# Altium integrated library Microchip PIC16 Part 1.IntLib: 1800 symbols (part 10 of 93)
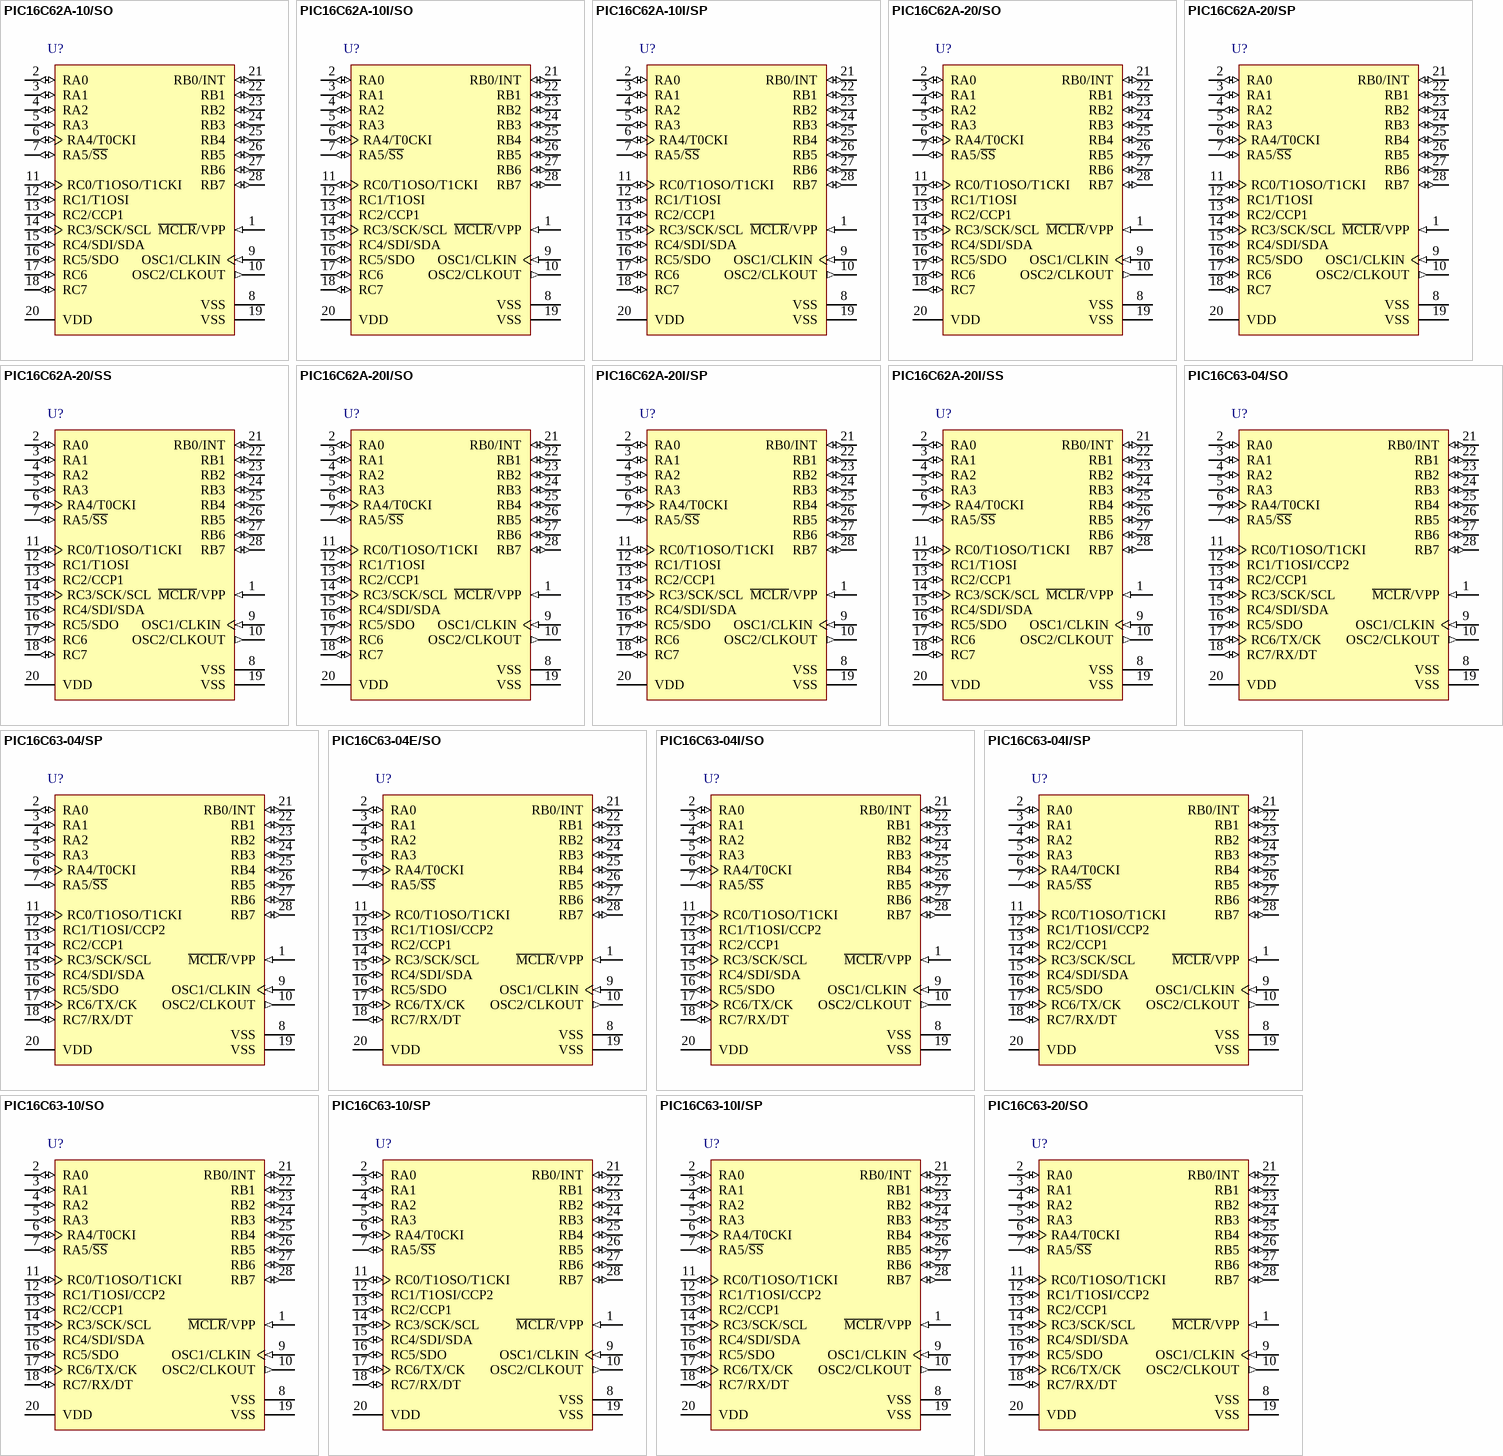
[diagram p109: symbols PIC16C62A-10/SO to PIC16C63-20/SO]

## PIC16C62A-20/SP
designator U?
8-Bit CMOS Microcontroller, 20 MHz, 22 I/O, 0 to 70 degC, 28-pin SPDIP (SP28), Tube; Manufacturer: Microchip; PartNumber: PIC16C62A-20/SP; Digital Communication: 1 -A/E/USART, 1 -SSP(SPI/I2C); I/O Pins: 22; Max. CPU Speed MHz: 20; Memory Type: OTP; Operation Voltage Range: 4V - 6V; Program Memory KBytes: 3.5; Program Memory KWords: 2; RAM: 128; Timers: 2 - 8-bit, 1 - 16-bit; DatasheetVersion: Rev. E; PackageVersion: C04-070B, 12/2012; PackageReference: SPDIP-SP28; PackageDescription: 28-Lead Plastic Dual In-Line, 34.86 x 6.79 mm Body, 2.54 mm Pitch; Supplier 1: Digi-Key; Supplier Part Number 1: PIC16C62A-20/SP-ND; Supplier 2: Mouser; Supplier Part Number 2: 579-PIC16C62A-20/SP; Packing: TUBE; RoHS: TRUE; Mounting Technology: Through Hole; ComponentLink1Description: Datasheet; ComponentLink1URL: http://ww1.microchip.com/downloads/en/DeviceDoc/30234E.pdf; ComponentLink2Description: Package Specification; ComponentLink2URL: http://www.microchip.com/stellent/groups/techpub_sg/documents/packagingspec/en012702.pdf; ComponentLink3Description: URL Link1; ComponentLink3URL: Product URL:http://www.microchip.com/datasheet/PIC16C62A
footprint MCHP-SPDIP-SP28 (DIP, 28-Leads, Body 34.86x6.79mm, Pitch 2.54mm)
pins: 1 ~{MCLR}/VPP (in), 2 RA0 (io), 3 RA1 (io), 4 RA2 (io), 5 RA3 (io), 6 RA4/T0CKI (io), 7 RA5/~{SS} (io), 8 VSS (power) "Ground reference for logic and I/O pins.", 9 OSC1/CLKIN (in), 10 OSC2/CLKOUT (out), 11 RC0/T1OSO/T1CKI (io), 12 RC1/T1OSI (io), 13 RC2/CCP1 (io), 14 RC3/SCK/SCL (io), 15 RC4/SDI/SDA (io), 16 RC5/SDO (io), 17 RC6 (io) "PORTC is a bi-directional I/O port.", 18 RC7 (io) "PORTC is a bi-directional I/O port.", 19 VSS (power) "Ground reference for logic and I/O pins.", 20 VDD (power) "Positive supply for logic and I/O pins.", 21 RB0/INT (io), 22 RB1 (io) "PORTB is a bi-directional I/O port. PORTB can be software programmed for internal weak pull-up on all inputs.", 23 RB2 (io) "PORTB is a bi-directional I/O port. PORTB can be software programmed for internal weak pull-up on all inputs.", 24 RB3 (io) "PORTB is a bi-directional I/O port. PORTB can be software programmed for internal weak pull-up on all inputs.", 25 RB4 (io) "PORTB is a bi-directional I/O port. PORTB can be software programmed for internal weak pull-up on all inputs.Interrupt on change pin.", 26 RB5 (io) "PORTB is a bi-directional I/O port. PORTB can be software programmed for internal weak pull-up on all inputs.Interrupt on change pin.", 27 RB6 (io) "PORTB is a bi-directional I/O port. PORTB can be software programmed for internal weak pull-up on all inputs.Interrupt on change pin. Serial programming clock.", 28 RB7 (io) "PORTB is a bi-directional I/O port. PORTB can be software programmed for internal weak pull-up on all inputs.Interrupt on change pin. Serial programming data."

## PIC16C62A-20/SS
designator U?
8-Bit CMOS Microcontroller, 20 MHz, 22 I/O, 0 to 70 degC, 28-pin SSOP (SS28), Tube; Manufacturer: Microchip; PartNumber: PIC16C62A-20/SS; Digital Communication: 1 -A/E/USART, 1 -SSP(SPI/I2C); I/O Pins: 22; Max. CPU Speed MHz: 20; Memory Type: OTP; Operation Voltage Range: 4V - 6V; Program Memory KBytes: 3.5; Program Memory KWords: 2; RAM: 128; Timers: 2 - 8-bit, 1 - 16-bit; DatasheetVersion: Rev. E; PackageVersion: C04-073B, 12/2012; PackageReference: SSOP-SS28; PackageDescription: 28-Lead Plastic Shrink Small Outline, 10.2 x 5.3 mm Body, 0.65 mm Pitch; Supplier 1: Digi-Key; Supplier Part Number 1: PIC16C62A-20/SS-ND; Supplier 2: Mouser; Supplier Part Number 2: 579-PIC16C62A-20/SS; Packing: TUBE; RoHS: TRUE; Mounting Technology: Surface Mount; ComponentLink1Description: Datasheet; ComponentLink1URL: http://ww1.microchip.com/downloads/en/DeviceDoc/30234E.pdf; ComponentLink2Description: Package Specification; ComponentLink2URL: http://www.microchip.com/stellent/groups/techpub_sg/documents/packagingspec/en012702.pdf; ComponentLink3Description: URL Link1; ComponentLink3URL: Product URL:http://www.microchip.com/datasheet/PIC16C62A
footprint MCHP-SSOP-SS28_N (SOP, 28-Leads, Body 10.2x5.3mm, Pitch 0.65mm, IPC Medium Density)
footprint MCHP-SSOP-SS28_L (SOP, 28-Leads, Body 10.2x5.3mm, Pitch 0.65mm, IPC High Density)
footprint MCHP-SSOP-SS28_M (SOP, 28-Leads, Body 10.2x5.3mm, Pitch 0.65mm, IPC Low Density)
pins: 1 ~{MCLR}/VPP (in), 2 RA0 (io), 3 RA1 (io), 4 RA2 (io), 5 RA3 (io), 6 RA4/T0CKI (io), 7 RA5/~{SS} (io), 8 VSS (power) "Ground reference for logic and I/O pins.", 9 OSC1/CLKIN (in), 10 OSC2/CLKOUT (out), 11 RC0/T1OSO/T1CKI (io), 12 RC1/T1OSI (io), 13 RC2/CCP1 (io), 14 RC3/SCK/SCL (io), 15 RC4/SDI/SDA (io), 16 RC5/SDO (io), 17 RC6 (io) "PORTC is a bi-directional I/O port.", 18 RC7 (io) "PORTC is a bi-directional I/O port.", 19 VSS (power) "Ground reference for logic and I/O pins.", 20 VDD (power) "Positive supply for logic and I/O pins.", 21 RB0/INT (io), 22 RB1 (io) "PORTB is a bi-directional I/O port. PORTB can be software programmed for internal weak pull-up on all inputs.", 23 RB2 (io) "PORTB is a bi-directional I/O port. PORTB can be software programmed for internal weak pull-up on all inputs.", 24 RB3 (io) "PORTB is a bi-directional I/O port. PORTB can be software programmed for internal weak pull-up on all inputs.", 25 RB4 (io) "PORTB is a bi-directional I/O port. PORTB can be software programmed for internal weak pull-up on all inputs.Interrupt on change pin.", 26 RB5 (io) "PORTB is a bi-directional I/O port. PORTB can be software programmed for internal weak pull-up on all inputs.Interrupt on change pin.", 27 RB6 (io) "PORTB is a bi-directional I/O port. PORTB can be software programmed for internal weak pull-up on all inputs.Interrupt on change pin. Serial programming clock.", 28 RB7 (io) "PORTB is a bi-directional I/O port. PORTB can be software programmed for internal weak pull-up on all inputs.Interrupt on change pin. Serial programming data."

## PIC16C62A-20I/SO
designator U?
8-Bit CMOS Microcontroller, 20 MHz, 22 I/O, -40 to 85 degC, 28-pin SOIC (SO28), Tube; Manufacturer: Microchip; PartNumber: PIC16C62A-20I/SO; Digital Communication: 1 -A/E/USART, 1 -SSP(SPI/I2C); I/O Pins: 22; Max. CPU Speed MHz: 20; Memory Type: OTP; Operation Voltage Range: 4V - 6V; Program Memory KBytes: 3.5; Program Memory KWords: 2; RAM: 128; Timers: 2 - 8-bit, 1 - 16-bit; DatasheetVersion: Rev. E; PackageVersion: C04-052C, 12/2012; PackageReference: SOIC-SO28; PackageDescription: 28-Lead Plastic Small Outline, 17.9 x 7.5 mm Body, 1.27 mm Pitch; Supplier 1: Digi-Key; Supplier Part Number 1: PIC16C62A-20I/SO-ND; Supplier 2: Mouser; Supplier Part Number 2: 579-PIC16C62A-20I/SO; Packing: TUBE; RoHS: TRUE; Mounting Technology: Surface Mount; ComponentLink1Description: Datasheet; ComponentLink1URL: http://ww1.microchip.com/downloads/en/DeviceDoc/30234E.pdf; ComponentLink2Description: Package Specification; ComponentLink2URL: http://www.microchip.com/stellent/groups/techpub_sg/documents/packagingspec/en012702.pdf; ComponentLink3Description: URL Link1; ComponentLink3URL: Product URL:http://www.microchip.com/datasheet/PIC16C62A
footprint MCHP-SOIC-SO28_N (SOIC, 28-Leads, Body 17.9x7.5mm, Pitch 1.27mm, IPC Medium Density)
footprint MCHP-SOIC-SO28_L (SOIC, 28-Leads, Body 17.9x7.5mm, Pitch 1.27mm, IPC High Density)
footprint MCHP-SOIC-SO28_M (SOIC, 28-Leads, Body 17.9x7.5mm, Pitch 1.27mm, IPC Low Density)
pins: 1 ~{MCLR}/VPP (in), 2 RA0 (io), 3 RA1 (io), 4 RA2 (io), 5 RA3 (io), 6 RA4/T0CKI (io), 7 RA5/~{SS} (io), 8 VSS (power) "Ground reference for logic and I/O pins.", 9 OSC1/CLKIN (in), 10 OSC2/CLKOUT (out), 11 RC0/T1OSO/T1CKI (io), 12 RC1/T1OSI (io), 13 RC2/CCP1 (io), 14 RC3/SCK/SCL (io), 15 RC4/SDI/SDA (io), 16 RC5/SDO (io), 17 RC6 (io) "PORTC is a bi-directional I/O port.", 18 RC7 (io) "PORTC is a bi-directional I/O port.", 19 VSS (power) "Ground reference for logic and I/O pins.", 20 VDD (power) "Positive supply for logic and I/O pins.", 21 RB0/INT (io), 22 RB1 (io) "PORTB is a bi-directional I/O port. PORTB can be software programmed for internal weak pull-up on all inputs.", 23 RB2 (io) "PORTB is a bi-directional I/O port. PORTB can be software programmed for internal weak pull-up on all inputs.", 24 RB3 (io) "PORTB is a bi-directional I/O port. PORTB can be software programmed for internal weak pull-up on all inputs.", 25 RB4 (io) "PORTB is a bi-directional I/O port. PORTB can be software programmed for internal weak pull-up on all inputs.Interrupt on change pin.", 26 RB5 (io) "PORTB is a bi-directional I/O port. PORTB can be software programmed for internal weak pull-up on all inputs.Interrupt on change pin.", 27 RB6 (io) "PORTB is a bi-directional I/O port. PORTB can be software programmed for internal weak pull-up on all inputs.Interrupt on change pin. Serial programming clock.", 28 RB7 (io) "PORTB is a bi-directional I/O port. PORTB can be software programmed for internal weak pull-up on all inputs.Interrupt on change pin. Serial programming data."

## PIC16C62A-20I/SP
designator U?
8-Bit CMOS Microcontroller, 20 MHz, 22 I/O, -40 to 85 degC, 28-pin SPDIP (SP28), Tube; Manufacturer: Microchip; PartNumber: PIC16C62A-20I/SP; Digital Communication: 1 -A/E/USART, 1 -SSP(SPI/I2C); I/O Pins: 22; Max. CPU Speed MHz: 20; Memory Type: OTP; Operation Voltage Range: 4V - 6V; Program Memory KBytes: 3.5; Program Memory KWords: 2; RAM: 128; Timers: 2 - 8-bit, 1 - 16-bit; DatasheetVersion: Rev. E; PackageVersion: C04-070B, 12/2012; PackageReference: SPDIP-SP28; PackageDescription: 28-Lead Plastic Dual In-Line, 34.86 x 6.79 mm Body, 2.54 mm Pitch; Supplier 1: Digi-Key; Supplier Part Number 1: PIC16C62A-20I/SP-ND; Supplier 2: Mouser; Supplier Part Number 2: 579-PIC16C62A-20I/SP; Packing: TUBE; RoHS: TRUE; Mounting Technology: Through Hole; ComponentLink1Description: Datasheet; ComponentLink1URL: http://ww1.microchip.com/downloads/en/DeviceDoc/30234E.pdf; ComponentLink2Description: Package Specification; ComponentLink2URL: http://www.microchip.com/stellent/groups/techpub_sg/documents/packagingspec/en012702.pdf; ComponentLink3Description: URL Link1; ComponentLink3URL: Product URL:http://www.microchip.com/datasheet/PIC16C62A
footprint MCHP-SPDIP-SP28 (DIP, 28-Leads, Body 34.86x6.79mm, Pitch 2.54mm)
pins: 1 ~{MCLR}/VPP (in), 2 RA0 (io), 3 RA1 (io), 4 RA2 (io), 5 RA3 (io), 6 RA4/T0CKI (io), 7 RA5/~{SS} (io), 8 VSS (power) "Ground reference for logic and I/O pins.", 9 OSC1/CLKIN (in), 10 OSC2/CLKOUT (out), 11 RC0/T1OSO/T1CKI (io), 12 RC1/T1OSI (io), 13 RC2/CCP1 (io), 14 RC3/SCK/SCL (io), 15 RC4/SDI/SDA (io), 16 RC5/SDO (io), 17 RC6 (io) "PORTC is a bi-directional I/O port.", 18 RC7 (io) "PORTC is a bi-directional I/O port.", 19 VSS (power) "Ground reference for logic and I/O pins.", 20 VDD (power) "Positive supply for logic and I/O pins.", 21 RB0/INT (io), 22 RB1 (io) "PORTB is a bi-directional I/O port. PORTB can be software programmed for internal weak pull-up on all inputs.", 23 RB2 (io) "PORTB is a bi-directional I/O port. PORTB can be software programmed for internal weak pull-up on all inputs.", 24 RB3 (io) "PORTB is a bi-directional I/O port. PORTB can be software programmed for internal weak pull-up on all inputs.", 25 RB4 (io) "PORTB is a bi-directional I/O port. PORTB can be software programmed for internal weak pull-up on all inputs.Interrupt on change pin.", 26 RB5 (io) "PORTB is a bi-directional I/O port. PORTB can be software programmed for internal weak pull-up on all inputs.Interrupt on change pin.", 27 RB6 (io) "PORTB is a bi-directional I/O port. PORTB can be software programmed for internal weak pull-up on all inputs.Interrupt on change pin. Serial programming clock.", 28 RB7 (io) "PORTB is a bi-directional I/O port. PORTB can be software programmed for internal weak pull-up on all inputs.Interrupt on change pin. Serial programming data."

## PIC16C62A-20I/SS
designator U?
8-Bit CMOS Microcontroller, 20 MHz, 22 I/O, -40 to 85 degC, 28-pin SSOP (SS28), Tube; Manufacturer: Microchip; PartNumber: PIC16C62A-20I/SS; Digital Communication: 1 -A/E/USART, 1 -SSP(SPI/I2C); I/O Pins: 22; Max. CPU Speed MHz: 20; Memory Type: OTP; Operation Voltage Range: 4V - 6V; Program Memory KBytes: 3.5; Program Memory KWords: 2; RAM: 128; Timers: 2 - 8-bit, 1 - 16-bit; DatasheetVersion: Rev. E; PackageVersion: C04-073B, 12/2012; PackageReference: SSOP-SS28; PackageDescription: 28-Lead Plastic Shrink Small Outline, 10.2 x 5.3 mm Body, 0.65 mm Pitch; Supplier 1: Digi-Key; Supplier Part Number 1: PIC16C62A-20I/SS-ND; Supplier 2: Mouser; Supplier Part Number 2: 579-PIC16C62A-20I/SS; Packing: TUBE; RoHS: TRUE; Mounting Technology: Surface Mount; ComponentLink1Description: Datasheet; ComponentLink1URL: http://ww1.microchip.com/downloads/en/DeviceDoc/30234E.pdf; ComponentLink2Description: Package Specification; ComponentLink2URL: http://www.microchip.com/stellent/groups/techpub_sg/documents/packagingspec/en012702.pdf; ComponentLink3Description: URL Link1; ComponentLink3URL: Product URL:http://www.microchip.com/datasheet/PIC16C62A
footprint MCHP-SSOP-SS28_N (SOP, 28-Leads, Body 10.2x5.3mm, Pitch 0.65mm, IPC Medium Density)
footprint MCHP-SSOP-SS28_L (SOP, 28-Leads, Body 10.2x5.3mm, Pitch 0.65mm, IPC High Density)
footprint MCHP-SSOP-SS28_M (SOP, 28-Leads, Body 10.2x5.3mm, Pitch 0.65mm, IPC Low Density)
pins: 1 ~{MCLR}/VPP (in), 2 RA0 (io), 3 RA1 (io), 4 RA2 (io), 5 RA3 (io), 6 RA4/T0CKI (io), 7 RA5/~{SS} (io), 8 VSS (power) "Ground reference for logic and I/O pins.", 9 OSC1/CLKIN (in), 10 OSC2/CLKOUT (out), 11 RC0/T1OSO/T1CKI (io), 12 RC1/T1OSI (io), 13 RC2/CCP1 (io), 14 RC3/SCK/SCL (io), 15 RC4/SDI/SDA (io), 16 RC5/SDO (io), 17 RC6 (io) "PORTC is a bi-directional I/O port.", 18 RC7 (io) "PORTC is a bi-directional I/O port.", 19 VSS (power) "Ground reference for logic and I/O pins.", 20 VDD (power) "Positive supply for logic and I/O pins.", 21 RB0/INT (io), 22 RB1 (io) "PORTB is a bi-directional I/O port. PORTB can be software programmed for internal weak pull-up on all inputs.", 23 RB2 (io) "PORTB is a bi-directional I/O port. PORTB can be software programmed for internal weak pull-up on all inputs.", 24 RB3 (io) "PORTB is a bi-directional I/O port. PORTB can be software programmed for internal weak pull-up on all inputs.", 25 RB4 (io) "PORTB is a bi-directional I/O port. PORTB can be software programmed for internal weak pull-up on all inputs.Interrupt on change pin.", 26 RB5 (io) "PORTB is a bi-directional I/O port. PORTB can be software programmed for internal weak pull-up on all inputs.Interrupt on change pin.", 27 RB6 (io) "PORTB is a bi-directional I/O port. PORTB can be software programmed for internal weak pull-up on all inputs.Interrupt on change pin. Serial programming clock.", 28 RB7 (io) "PORTB is a bi-directional I/O port. PORTB can be software programmed for internal weak pull-up on all inputs.Interrupt on change pin. Serial programming data."

## PIC16C63-04/SO
designator U?
8-Bit CMOS Microcontroller, 4 MHz, 22 I/O, 0 to 70 degC, 28-pin SOIC (SO28), Tube; Manufacturer: Microchip; PartNumber: PIC16C63-04/SO; # of A/D Channels: 5; Digital Communication: 0 -UART, 1 -A/E/USART, 0 -SPI, 0 -I2C, 0 -MSSP(SPI/I2C), 1 -SSP(SPI/I2C); I/O Pins: 22; Max. CPU Speed MHz: 4; Memory Type: OTP; Operation Voltage Range: 2.5V - 6V; Program Memory KBytes: 7; RAM: 192; Timers: 2 - 8-bit, 1 - 16-bit; DatasheetVersion: Rev. E; PackageVersion: C04-052C, 12/2012; PackageReference: SOIC-SO28; PackageDescription: 28-Lead Plastic Small Outline, 17.9 x 7.5 mm Body, 1.27 mm Pitch; Supplier 1: Digi-Key; Supplier Part Number 1: PIC16C63-04/SO-ND; Supplier 2: Farnell; Supplier Part Number 2: 9759581; Supplier 3: Mouser; Supplier Part Number 3: 579-PIC16C63-04/SO; Packing: TUBE; Program Memory KWords: 4; RoHS: TRUE; Mounting Technology: Surface Mount; ComponentLink1Description: Datasheet; ComponentLink1URL: http://ww1.microchip.com/downloads/en/DeviceDoc/30234E.pdf; ComponentLink2Description: Package Specification; ComponentLink2URL: http://www.microchip.com/stellent/groups/techpub_sg/documents/packagingspec/en012702.pdf; ComponentLink3Description: URL Link1; ComponentLink3URL: Product URL:http://www.microchip.com/datasheet/PIC16C63
footprint MCHP-SOIC-SO28_N (SOIC, 28-Leads, Body 17.9x7.5mm, Pitch 1.27mm, IPC Medium Density)
footprint MCHP-SOIC-SO28_L (SOIC, 28-Leads, Body 17.9x7.5mm, Pitch 1.27mm, IPC High Density)
footprint MCHP-SOIC-SO28_M (SOIC, 28-Leads, Body 17.9x7.5mm, Pitch 1.27mm, IPC Low Density)
pins: 1 ~{MCLR}/VPP (in), 2 RA0 (io) "PORTA is a bi-directional I/O port.", 3 RA1 (io) "PORTA is a bi-directional I/O port.", 4 RA2 (io) "PORTA is a bi-directional I/O port.", 5 RA3 (io) "PORTA is a bi-directional I/O port.", 6 RA4/T0CKI (io), 7 RA5/~{SS} (io), 8 VSS (power) "Ground reference for logic and I/O pins.", 9 OSC1/CLKIN (in), 10 OSC2/CLKOUT (out), 11 RC0/T1OSO/T1CKI (io), 12 RC1/T1OSI/CCP2 (io), 13 RC2/CCP1 (io), 14 RC3/SCK/SCL (io), 15 RC4/SDI/SDA (io), 16 RC5/SDO (io), 17 RC6/TX/CK (io), 18 RC7/RX/DT (io), 19 VSS (power) "Ground reference for logic and I/O pins.", 20 VDD (power) "Positive supply for logic and I/O pins.", 21 RB0/INT (io), 22 RB1 (io) "PORTB is a bi-directional I/O port. PORTB can be software programmed for internal weak pull-up on all inputs.", 23 RB2 (io) "PORTB is a bi-directional I/O port. PORTB can be software programmed for internal weak pull-up on all inputs.", 24 RB3 (io) "PORTB is a bi-directional I/O port. PORTB can be software programmed for internal weak pull-up on all inputs.", 25 RB4 (io) "PORTB is a bi-directional I/O port. PORTB can be software programmed for internal weak pull-up on all inputs. Interrupt on change pin.", 26 RB5 (io) "PORTB is a bi-directional I/O port. PORTB can be software programmed for internal weak pull-up on all inputs. Interrupt on change pin.", 27 RB6 (io) "PORTB is a bi-directional I/O port. PORTB can be software programmed for internal weak pull-up on all inputs. Interrupt on change pin. Serial programming clock.", 28 RB7 (io) "PORTB is a bi-directional I/O port. PORTB can be software programmed for internal weak pull-up on all inputs. Interrupt on change pin. Serial programming data."

## PIC16C63-04/SP
designator U?
8-Bit CMOS Microcontroller, 4 MHz, 22 I/O, 0 to 70 degC, 28-pin SPDIP (SP28), Tube; Manufacturer: Microchip; PartNumber: PIC16C63-04/SP; # of A/D Channels: 5; Digital Communication: 0 -UART, 1 -A/E/USART, 0 -SPI, 0 -I2C, 0 -MSSP(SPI/I2C), 1 -SSP(SPI/I2C); I/O Pins: 22; Max. CPU Speed MHz: 4; Memory Type: OTP; Operation Voltage Range: 2.5V - 6V; Program Memory KBytes: 7; RAM: 192; Timers: 2 - 8-bit, 1 - 16-bit; DatasheetVersion: Rev. E; PackageVersion: C04-070B, 12/2012; PackageReference: SPDIP-SP28; PackageDescription: 28-Lead Plastic Dual In-Line, 34.86 x 6.79 mm Body, 2.54 mm Pitch; Supplier 1: Digi-Key; Supplier Part Number 1: PIC16C63-04/SP-ND; Supplier 2: Farnell; Supplier Part Number 2: 9759590; Supplier 3: Newark; Supplier Part Number 3: 97K7238; Supplier 4: Mouser; Supplier Part Number 4: 579-PIC16C63-04/SP; Packing: TUBE; Program Memory KWords: 4; RoHS: TRUE; Mounting Technology: Through Hole; ComponentLink1Description: Datasheet; ComponentLink1URL: http://ww1.microchip.com/downloads/en/DeviceDoc/30234E.pdf; ComponentLink2Description: Package Specification; ComponentLink2URL: http://www.microchip.com/stellent/groups/techpub_sg/documents/packagingspec/en012702.pdf; ComponentLink3Description: URL Link1; ComponentLink3URL: Product URL:http://www.microchip.com/datasheet/PIC16C63
footprint MCHP-SPDIP-SP28 (DIP, 28-Leads, Body 34.86x6.79mm, Pitch 2.54mm)
pins: 1 ~{MCLR}/VPP (in), 2 RA0 (io) "PORTA is a bi-directional I/O port.", 3 RA1 (io) "PORTA is a bi-directional I/O port.", 4 RA2 (io) "PORTA is a bi-directional I/O port.", 5 RA3 (io) "PORTA is a bi-directional I/O port.", 6 RA4/T0CKI (io), 7 RA5/~{SS} (io), 8 VSS (power) "Ground reference for logic and I/O pins.", 9 OSC1/CLKIN (in), 10 OSC2/CLKOUT (out), 11 RC0/T1OSO/T1CKI (io), 12 RC1/T1OSI/CCP2 (io), 13 RC2/CCP1 (io), 14 RC3/SCK/SCL (io), 15 RC4/SDI/SDA (io), 16 RC5/SDO (io), 17 RC6/TX/CK (io), 18 RC7/RX/DT (io), 19 VSS (power) "Ground reference for logic and I/O pins.", 20 VDD (power) "Positive supply for logic and I/O pins.", 21 RB0/INT (io), 22 RB1 (io) "PORTB is a bi-directional I/O port. PORTB can be software programmed for internal weak pull-up on all inputs.", 23 RB2 (io) "PORTB is a bi-directional I/O port. PORTB can be software programmed for internal weak pull-up on all inputs.", 24 RB3 (io) "PORTB is a bi-directional I/O port. PORTB can be software programmed for internal weak pull-up on all inputs.", 25 RB4 (io) "PORTB is a bi-directional I/O port. PORTB can be software programmed for internal weak pull-up on all inputs. Interrupt on change pin.", 26 RB5 (io) "PORTB is a bi-directional I/O port. PORTB can be software programmed for internal weak pull-up on all inputs. Interrupt on change pin.", 27 RB6 (io) "PORTB is a bi-directional I/O port. PORTB can be software programmed for internal weak pull-up on all inputs. Interrupt on change pin. Serial programming clock.", 28 RB7 (io) "PORTB is a bi-directional I/O port. PORTB can be software programmed for internal weak pull-up on all inputs. Interrupt on change pin. Serial programming data."

## PIC16C63-04E/SO
designator U?
8-Bit CMOS Microcontroller, 4 MHz, 22 I/O, -40 to 125 degC, 28-pin SOIC (SO28), Tube; Manufacturer: Microchip; PartNumber: PIC16C63-04E/SO; # of A/D Channels: 5; Digital Communication: 0 -UART, 1 -A/E/USART, 0 -SPI, 0 -I2C, 0 -MSSP(SPI/I2C), 1 -SSP(SPI/I2C); I/O Pins: 22; Max. CPU Speed MHz: 4; Memory Type: OTP; Operation Voltage Range: 2.5V - 6V; Program Memory KBytes: 7; RAM: 192; Timers: 2 - 8-bit, 1 - 16-bit; DatasheetVersion: Rev. E; PackageVersion: C04-052C, 12/2012; PackageReference: SOIC-SO28; PackageDescription: 28-Lead Plastic Small Outline, 17.9 x 7.5 mm Body, 1.27 mm Pitch; Supplier 1: Digi-Key; Supplier Part Number 1: PIC16C63-04E/SO-ND; Supplier 2: Mouser; Supplier Part Number 2: 579-PIC16C63-04E/SO; Packing: TUBE; Program Memory KWords: 4; RoHS: TRUE; Mounting Technology: Surface Mount; ComponentLink1Description: Datasheet; ComponentLink1URL: http://ww1.microchip.com/downloads/en/DeviceDoc/30234E.pdf; ComponentLink2Description: Package Specification; ComponentLink2URL: http://www.microchip.com/stellent/groups/techpub_sg/documents/packagingspec/en012702.pdf; ComponentLink3Description: URL Link1; ComponentLink3URL: Product URL:http://www.microchip.com/datasheet/PIC16C63
footprint MCHP-SOIC-SO28_N (SOIC, 28-Leads, Body 17.9x7.5mm, Pitch 1.27mm, IPC Medium Density)
footprint MCHP-SOIC-SO28_L (SOIC, 28-Leads, Body 17.9x7.5mm, Pitch 1.27mm, IPC High Density)
footprint MCHP-SOIC-SO28_M (SOIC, 28-Leads, Body 17.9x7.5mm, Pitch 1.27mm, IPC Low Density)
pins: 1 ~{MCLR}/VPP (in), 2 RA0 (io) "PORTA is a bi-directional I/O port.", 3 RA1 (io) "PORTA is a bi-directional I/O port.", 4 RA2 (io) "PORTA is a bi-directional I/O port.", 5 RA3 (io) "PORTA is a bi-directional I/O port.", 6 RA4/T0CKI (io), 7 RA5/~{SS} (io), 8 VSS (power) "Ground reference for logic and I/O pins.", 9 OSC1/CLKIN (in), 10 OSC2/CLKOUT (out), 11 RC0/T1OSO/T1CKI (io), 12 RC1/T1OSI/CCP2 (io), 13 RC2/CCP1 (io), 14 RC3/SCK/SCL (io), 15 RC4/SDI/SDA (io), 16 RC5/SDO (io), 17 RC6/TX/CK (io), 18 RC7/RX/DT (io), 19 VSS (power) "Ground reference for logic and I/O pins.", 20 VDD (power) "Positive supply for logic and I/O pins.", 21 RB0/INT (io), 22 RB1 (io) "PORTB is a bi-directional I/O port. PORTB can be software programmed for internal weak pull-up on all inputs.", 23 RB2 (io) "PORTB is a bi-directional I/O port. PORTB can be software programmed for internal weak pull-up on all inputs.", 24 RB3 (io) "PORTB is a bi-directional I/O port. PORTB can be software programmed for internal weak pull-up on all inputs.", 25 RB4 (io) "PORTB is a bi-directional I/O port. PORTB can be software programmed for internal weak pull-up on all inputs. Interrupt on change pin.", 26 RB5 (io) "PORTB is a bi-directional I/O port. PORTB can be software programmed for internal weak pull-up on all inputs. Interrupt on change pin.", 27 RB6 (io) "PORTB is a bi-directional I/O port. PORTB can be software programmed for internal weak pull-up on all inputs. Interrupt on change pin. Serial programming clock.", 28 RB7 (io) "PORTB is a bi-directional I/O port. PORTB can be software programmed for internal weak pull-up on all inputs. Interrupt on change pin. Serial programming data."

## PIC16C63-04I/SO
designator U?
8-Bit CMOS Microcontroller, 4 MHz, 22 I/O, -40 to 85 degC, 28-pin SOIC (SO28), Tube; Manufacturer: Microchip; PartNumber: PIC16C63-04I/SO; # of A/D Channels: 5; Digital Communication: 0 -UART, 1 -A/E/USART, 0 -SPI, 0 -I2C, 0 -MSSP(SPI/I2C), 1 -SSP(SPI/I2C); I/O Pins: 22; Max. CPU Speed MHz: 4; Memory Type: OTP; Operation Voltage Range: 2.5V - 6V; Program Memory KBytes: 7; RAM: 192; Timers: 2 - 8-bit, 1 - 16-bit; DatasheetVersion: Rev. E; PackageVersion: C04-052C, 12/2012; PackageReference: SOIC-SO28; PackageDescription: 28-Lead Plastic Small Outline, 17.9 x 7.5 mm Body, 1.27 mm Pitch; Supplier 1: Digi-Key; Supplier Part Number 1: PIC16C63-04I/SO-ND; Supplier 2: Mouser; Supplier Part Number 2: 579-PIC16C63-04I/SO; Packing: TUBE; Program Memory KWords: 4; RoHS: TRUE; Mounting Technology: Surface Mount; ComponentLink1Description: Datasheet; ComponentLink1URL: http://ww1.microchip.com/downloads/en/DeviceDoc/30234E.pdf; ComponentLink2Description: Package Specification; ComponentLink2URL: http://www.microchip.com/stellent/groups/techpub_sg/documents/packagingspec/en012702.pdf; ComponentLink3Description: URL Link1; ComponentLink3URL: Product URL:http://www.microchip.com/datasheet/PIC16C63
footprint MCHP-SOIC-SO28_N (SOIC, 28-Leads, Body 17.9x7.5mm, Pitch 1.27mm, IPC Medium Density)
footprint MCHP-SOIC-SO28_L (SOIC, 28-Leads, Body 17.9x7.5mm, Pitch 1.27mm, IPC High Density)
footprint MCHP-SOIC-SO28_M (SOIC, 28-Leads, Body 17.9x7.5mm, Pitch 1.27mm, IPC Low Density)
pins: 1 ~{MCLR}/VPP (in), 2 RA0 (io) "PORTA is a bi-directional I/O port.", 3 RA1 (io) "PORTA is a bi-directional I/O port.", 4 RA2 (io) "PORTA is a bi-directional I/O port.", 5 RA3 (io) "PORTA is a bi-directional I/O port.", 6 RA4/T0CKI (io), 7 RA5/~{SS} (io), 8 VSS (power) "Ground reference for logic and I/O pins.", 9 OSC1/CLKIN (in), 10 OSC2/CLKOUT (out), 11 RC0/T1OSO/T1CKI (io), 12 RC1/T1OSI/CCP2 (io), 13 RC2/CCP1 (io), 14 RC3/SCK/SCL (io), 15 RC4/SDI/SDA (io), 16 RC5/SDO (io), 17 RC6/TX/CK (io), 18 RC7/RX/DT (io), 19 VSS (power) "Ground reference for logic and I/O pins.", 20 VDD (power) "Positive supply for logic and I/O pins.", 21 RB0/INT (io), 22 RB1 (io) "PORTB is a bi-directional I/O port. PORTB can be software programmed for internal weak pull-up on all inputs.", 23 RB2 (io) "PORTB is a bi-directional I/O port. PORTB can be software programmed for internal weak pull-up on all inputs.", 24 RB3 (io) "PORTB is a bi-directional I/O port. PORTB can be software programmed for internal weak pull-up on all inputs.", 25 RB4 (io) "PORTB is a bi-directional I/O port. PORTB can be software programmed for internal weak pull-up on all inputs. Interrupt on change pin.", 26 RB5 (io) "PORTB is a bi-directional I/O port. PORTB can be software programmed for internal weak pull-up on all inputs. Interrupt on change pin.", 27 RB6 (io) "PORTB is a bi-directional I/O port. PORTB can be software programmed for internal weak pull-up on all inputs. Interrupt on change pin. Serial programming clock.", 28 RB7 (io) "PORTB is a bi-directional I/O port. PORTB can be software programmed for internal weak pull-up on all inputs. Interrupt on change pin. Serial programming data."

## PIC16C63-04I/SP
designator U?
8-Bit CMOS Microcontroller, 4 MHz, 22 I/O, -40 to 85 degC, 28-pin SPDIP (SP28), Tube; Manufacturer: Microchip; PartNumber: PIC16C63-04I/SP; # of A/D Channels: 5; Digital Communication: 0 -UART, 1 -A/E/USART, 0 -SPI, 0 -I2C, 0 -MSSP(SPI/I2C), 1 -SSP(SPI/I2C); I/O Pins: 22; Max. CPU Speed MHz: 4; Memory Type: OTP; Operation Voltage Range: 2.5V - 6V; Program Memory KBytes: 7; RAM: 192; Timers: 2 - 8-bit, 1 - 16-bit; DatasheetVersion: Rev. E; PackageVersion: C04-070B, 12/2012; PackageReference: SPDIP-SP28; PackageDescription: 28-Lead Plastic Dual In-Line, 34.86 x 6.79 mm Body, 2.54 mm Pitch; Supplier 1: Digi-Key; Supplier Part Number 1: PIC16C63-04I/SP-ND; Supplier 2: Mouser; Supplier Part Number 2: 579-PIC16C63-04I/SP; Packing: TUBE; Program Memory KWords: 4; RoHS: TRUE; Mounting Technology: Through Hole; ComponentLink1Description: Datasheet; ComponentLink1URL: http://ww1.microchip.com/downloads/en/DeviceDoc/30234E.pdf; ComponentLink2Description: Package Specification; ComponentLink2URL: http://www.microchip.com/stellent/groups/techpub_sg/documents/packagingspec/en012702.pdf; ComponentLink3Description: URL Link1; ComponentLink3URL: Product URL:http://www.microchip.com/datasheet/PIC16C63
footprint MCHP-SPDIP-SP28 (DIP, 28-Leads, Body 34.86x6.79mm, Pitch 2.54mm)
pins: 1 ~{MCLR}/VPP (in), 2 RA0 (io) "PORTA is a bi-directional I/O port.", 3 RA1 (io) "PORTA is a bi-directional I/O port.", 4 RA2 (io) "PORTA is a bi-directional I/O port.", 5 RA3 (io) "PORTA is a bi-directional I/O port.", 6 RA4/T0CKI (io), 7 RA5/~{SS} (io), 8 VSS (power) "Ground reference for logic and I/O pins.", 9 OSC1/CLKIN (in), 10 OSC2/CLKOUT (out), 11 RC0/T1OSO/T1CKI (io), 12 RC1/T1OSI/CCP2 (io), 13 RC2/CCP1 (io), 14 RC3/SCK/SCL (io), 15 RC4/SDI/SDA (io), 16 RC5/SDO (io), 17 RC6/TX/CK (io), 18 RC7/RX/DT (io), 19 VSS (power) "Ground reference for logic and I/O pins.", 20 VDD (power) "Positive supply for logic and I/O pins.", 21 RB0/INT (io), 22 RB1 (io) "PORTB is a bi-directional I/O port. PORTB can be software programmed for internal weak pull-up on all inputs.", 23 RB2 (io) "PORTB is a bi-directional I/O port. PORTB can be software programmed for internal weak pull-up on all inputs.", 24 RB3 (io) "PORTB is a bi-directional I/O port. PORTB can be software programmed for internal weak pull-up on all inputs.", 25 RB4 (io) "PORTB is a bi-directional I/O port. PORTB can be software programmed for internal weak pull-up on all inputs. Interrupt on change pin.", 26 RB5 (io) "PORTB is a bi-directional I/O port. PORTB can be software programmed for internal weak pull-up on all inputs. Interrupt on change pin.", 27 RB6 (io) "PORTB is a bi-directional I/O port. PORTB can be software programmed for internal weak pull-up on all inputs. Interrupt on change pin. Serial programming clock.", 28 RB7 (io) "PORTB is a bi-directional I/O port. PORTB can be software programmed for internal weak pull-up on all inputs. Interrupt on change pin. Serial programming data."

## PIC16C63-10/SO
designator U?
8-Bit CMOS Microcontroller, 10 MHz, 22 I/O, 0 to 70 degC, 28-pin SOIC (SO28), Tube; Manufacturer: Microchip; PartNumber: PIC16C63-10/SO; # of A/D Channels: 5; Digital Communication: 0 -UART, 1 -A/E/USART, 0 -SPI, 0 -I2C, 0 -MSSP(SPI/I2C), 1 -SSP(SPI/I2C); I/O Pins: 22; Max. CPU Speed MHz: 10; Memory Type: OTP; Operation Voltage Range: 2.5V - 6V; Program Memory KBytes: 7; Program Memory KWords: 4; RAM: 192; Timers: 2 - 8-bit, 1 - 16-bit; DatasheetVersion: Rev. E; PackageVersion: C04-052C, 12/2012; PackageReference: SOIC-SO28; PackageDescription: 28-Lead Plastic Small Outline, 17.9 x 7.5 mm Body, 1.27 mm Pitch; Supplier 1: Digi-Key; Supplier Part Number 1: PIC16C63-10/SO-ND; Supplier 2: Mouser; Supplier Part Number 2: 579-PIC16C63-10/SO; Packing: TUBE; RoHS: TRUE; Mounting Technology: Surface Mount; ComponentLink1Description: Datasheet; ComponentLink1URL: http://ww1.microchip.com/downloads/en/DeviceDoc/30234E.pdf; ComponentLink2Description: Package Specification; ComponentLink2URL: http://www.microchip.com/stellent/groups/techpub_sg/documents/packagingspec/en012702.pdf; ComponentLink3Description: URL Link1; ComponentLink3URL: Product URL:http://www.microchip.com/datasheet/PIC16C63
footprint MCHP-SOIC-SO28_N (SOIC, 28-Leads, Body 17.9x7.5mm, Pitch 1.27mm, IPC Medium Density)
footprint MCHP-SOIC-SO28_L (SOIC, 28-Leads, Body 17.9x7.5mm, Pitch 1.27mm, IPC High Density)
footprint MCHP-SOIC-SO28_M (SOIC, 28-Leads, Body 17.9x7.5mm, Pitch 1.27mm, IPC Low Density)
pins: 1 ~{MCLR}/VPP (in), 2 RA0 (io) "PORTA is a bi-directional I/O port.", 3 RA1 (io) "PORTA is a bi-directional I/O port.", 4 RA2 (io) "PORTA is a bi-directional I/O port.", 5 RA3 (io) "PORTA is a bi-directional I/O port.", 6 RA4/T0CKI (io), 7 RA5/~{SS} (io), 8 VSS (power) "Ground reference for logic and I/O pins.", 9 OSC1/CLKIN (in), 10 OSC2/CLKOUT (out), 11 RC0/T1OSO/T1CKI (io), 12 RC1/T1OSI/CCP2 (io), 13 RC2/CCP1 (io), 14 RC3/SCK/SCL (io), 15 RC4/SDI/SDA (io), 16 RC5/SDO (io), 17 RC6/TX/CK (io), 18 RC7/RX/DT (io), 19 VSS (power) "Ground reference for logic and I/O pins.", 20 VDD (power) "Positive supply for logic and I/O pins.", 21 RB0/INT (io), 22 RB1 (io) "PORTB is a bi-directional I/O port. PORTB can be software programmed for internal weak pull-up on all inputs.", 23 RB2 (io) "PORTB is a bi-directional I/O port. PORTB can be software programmed for internal weak pull-up on all inputs.", 24 RB3 (io) "PORTB is a bi-directional I/O port. PORTB can be software programmed for internal weak pull-up on all inputs.", 25 RB4 (io) "PORTB is a bi-directional I/O port. PORTB can be software programmed for internal weak pull-up on all inputs. Interrupt on change pin.", 26 RB5 (io) "PORTB is a bi-directional I/O port. PORTB can be software programmed for internal weak pull-up on all inputs. Interrupt on change pin.", 27 RB6 (io) "PORTB is a bi-directional I/O port. PORTB can be software programmed for internal weak pull-up on all inputs. Interrupt on change pin. Serial programming clock.", 28 RB7 (io) "PORTB is a bi-directional I/O port. PORTB can be software programmed for internal weak pull-up on all inputs. Interrupt on change pin. Serial programming data."

## PIC16C63-10/SP
designator U?
8-Bit CMOS Microcontroller, 10 MHz, 22 I/O, 0 to 70 degC, 28-pin SPDIP (SP28), Tube; Manufacturer: Microchip; PartNumber: PIC16C63-10/SP; # of A/D Channels: 5; Digital Communication: 0 -UART, 1 -A/E/USART, 0 -SPI, 0 -I2C, 0 -MSSP(SPI/I2C), 1 -SSP(SPI/I2C); I/O Pins: 22; Max. CPU Speed MHz: 10; Memory Type: OTP; Operation Voltage Range: 2.5V - 6V; Program Memory KBytes: 7; Program Memory KWords: 4; RAM: 192; Timers: 2 - 8-bit, 1 - 16-bit; DatasheetVersion: Rev. E; PackageVersion: C04-070B, 12/2012; PackageReference: SPDIP-SP28; PackageDescription: 28-Lead Plastic Dual In-Line, 34.86 x 6.79 mm Body, 2.54 mm Pitch; Supplier 1: Digi-Key; Supplier Part Number 1: PIC16C63-10/SP-ND; Supplier 2: Farnell; Supplier Part Number 2: 1196827; Supplier 3: Mouser; Supplier Part Number 3: 579-PIC16C63-10/SP; Packing: TUBE; RoHS: TRUE; Mounting Technology: Through Hole; ComponentLink1Description: Datasheet; ComponentLink1URL: http://ww1.microchip.com/downloads/en/DeviceDoc/30234E.pdf; ComponentLink2Description: Package Specification; ComponentLink2URL: http://www.microchip.com/stellent/groups/techpub_sg/documents/packagingspec/en012702.pdf; ComponentLink3Description: URL Link1; ComponentLink3URL: Product URL:http://www.microchip.com/datasheet/PIC16C63
footprint MCHP-SPDIP-SP28 (DIP, 28-Leads, Body 34.86x6.79mm, Pitch 2.54mm)
pins: 1 ~{MCLR}/VPP (in), 2 RA0 (io) "PORTA is a bi-directional I/O port.", 3 RA1 (io) "PORTA is a bi-directional I/O port.", 4 RA2 (io) "PORTA is a bi-directional I/O port.", 5 RA3 (io) "PORTA is a bi-directional I/O port.", 6 RA4/T0CKI (io), 7 RA5/~{SS} (io), 8 VSS (power) "Ground reference for logic and I/O pins.", 9 OSC1/CLKIN (in), 10 OSC2/CLKOUT (out), 11 RC0/T1OSO/T1CKI (io), 12 RC1/T1OSI/CCP2 (io), 13 RC2/CCP1 (io), 14 RC3/SCK/SCL (io), 15 RC4/SDI/SDA (io), 16 RC5/SDO (io), 17 RC6/TX/CK (io), 18 RC7/RX/DT (io), 19 VSS (power) "Ground reference for logic and I/O pins.", 20 VDD (power) "Positive supply for logic and I/O pins.", 21 RB0/INT (io), 22 RB1 (io) "PORTB is a bi-directional I/O port. PORTB can be software programmed for internal weak pull-up on all inputs.", 23 RB2 (io) "PORTB is a bi-directional I/O port. PORTB can be software programmed for internal weak pull-up on all inputs.", 24 RB3 (io) "PORTB is a bi-directional I/O port. PORTB can be software programmed for internal weak pull-up on all inputs.", 25 RB4 (io) "PORTB is a bi-directional I/O port. PORTB can be software programmed for internal weak pull-up on all inputs. Interrupt on change pin.", 26 RB5 (io) "PORTB is a bi-directional I/O port. PORTB can be software programmed for internal weak pull-up on all inputs. Interrupt on change pin.", 27 RB6 (io) "PORTB is a bi-directional I/O port. PORTB can be software programmed for internal weak pull-up on all inputs. Interrupt on change pin. Serial programming clock.", 28 RB7 (io) "PORTB is a bi-directional I/O port. PORTB can be software programmed for internal weak pull-up on all inputs. Interrupt on change pin. Serial programming data."

## PIC16C63-10I/SP
designator U?
8-Bit CMOS Microcontroller, 10 MHz, 22 I/O, -40 to 85 degC, 28-pin SPDIP (SP28), Tube; Manufacturer: Microchip; PartNumber: PIC16C63-10I/SP; # of A/D Channels: 5; Digital Communication: 0 -UART, 1 -A/E/USART, 0 -SPI, 0 -I2C, 0 -MSSP(SPI/I2C), 1 -SSP(SPI/I2C); I/O Pins: 22; Max. CPU Speed MHz: 10; Memory Type: OTP; Operation Voltage Range: 2.5V - 6V; Program Memory KBytes: 7; Program Memory KWords: 4; RAM: 192; Timers: 2 - 8-bit, 1 - 16-bit; DatasheetVersion: Rev. E; PackageVersion: C04-070B, 12/2012; PackageReference: SPDIP-SP28; PackageDescription: 28-Lead Plastic Dual In-Line, 34.86 x 6.79 mm Body, 2.54 mm Pitch; Supplier 1: Digi-Key; Supplier Part Number 1: PIC16C63-10I/SP-ND; Supplier 2: Mouser; Supplier Part Number 2: 579-PIC16C63-10I/SP; Packing: TUBE; RoHS: TRUE; Mounting Technology: Through Hole; ComponentLink1Description: Datasheet; ComponentLink1URL: http://ww1.microchip.com/downloads/en/DeviceDoc/30234E.pdf; ComponentLink2Description: Package Specification; ComponentLink2URL: http://www.microchip.com/stellent/groups/techpub_sg/documents/packagingspec/en012702.pdf; ComponentLink3Description: URL Link1; ComponentLink3URL: Product URL:http://www.microchip.com/datasheet/PIC16C63
footprint MCHP-SPDIP-SP28 (DIP, 28-Leads, Body 34.86x6.79mm, Pitch 2.54mm)
pins: 1 ~{MCLR}/VPP (in), 2 RA0 (io) "PORTA is a bi-directional I/O port.", 3 RA1 (io) "PORTA is a bi-directional I/O port.", 4 RA2 (io) "PORTA is a bi-directional I/O port.", 5 RA3 (io) "PORTA is a bi-directional I/O port.", 6 RA4/T0CKI (io), 7 RA5/~{SS} (io), 8 VSS (power) "Ground reference for logic and I/O pins.", 9 OSC1/CLKIN (in), 10 OSC2/CLKOUT (out), 11 RC0/T1OSO/T1CKI (io), 12 RC1/T1OSI/CCP2 (io), 13 RC2/CCP1 (io), 14 RC3/SCK/SCL (io), 15 RC4/SDI/SDA (io), 16 RC5/SDO (io), 17 RC6/TX/CK (io), 18 RC7/RX/DT (io), 19 VSS (power) "Ground reference for logic and I/O pins.", 20 VDD (power) "Positive supply for logic and I/O pins.", 21 RB0/INT (io), 22 RB1 (io) "PORTB is a bi-directional I/O port. PORTB can be software programmed for internal weak pull-up on all inputs.", 23 RB2 (io) "PORTB is a bi-directional I/O port. PORTB can be software programmed for internal weak pull-up on all inputs.", 24 RB3 (io) "PORTB is a bi-directional I/O port. PORTB can be software programmed for internal weak pull-up on all inputs.", 25 RB4 (io) "PORTB is a bi-directional I/O port. PORTB can be software programmed for internal weak pull-up on all inputs. Interrupt on change pin.", 26 RB5 (io) "PORTB is a bi-directional I/O port. PORTB can be software programmed for internal weak pull-up on all inputs. Interrupt on change pin.", 27 RB6 (io) "PORTB is a bi-directional I/O port. PORTB can be software programmed for internal weak pull-up on all inputs. Interrupt on change pin. Serial programming clock.", 28 RB7 (io) "PORTB is a bi-directional I/O port. PORTB can be software programmed for internal weak pull-up on all inputs. Interrupt on change pin. Serial programming data."

## PIC16C63-20/SO
designator U?
8-Bit CMOS Microcontroller, 20 MHz, 22 I/O, 0 to 70 degC, 28-pin SOIC (SO28), Tube; Manufacturer: Microchip; PartNumber: PIC16C63-20/SO; # of A/D Channels: 5; Digital Communication: 0 -UART, 1 -A/E/USART, 0 -SPI, 0 -I2C, 0 -MSSP(SPI/I2C), 1 -SSP(SPI/I2C); I/O Pins: 22; Max. CPU Speed MHz: 20; Memory Type: OTP; Operation Voltage Range: 2.5V - 6V; Program Memory KBytes: 7; Program Memory KWords: 4; RAM: 192; Timers: 2 - 8-bit, 1 - 16-bit; DatasheetVersion: Rev. E; PackageVersion: C04-052C, 12/2012; PackageReference: SOIC-SO28; PackageDescription: 28-Lead Plastic Small Outline, 17.9 x 7.5 mm Body, 1.27 mm Pitch; Supplier 1: Digi-Key; Supplier Part Number 1: PIC16C63-20/SO-ND; Supplier 2: Mouser; Supplier Part Number 2: 579-PIC16C63-20/SO; Packing: TUBE; RoHS: TRUE; Mounting Technology: Surface Mount; ComponentLink1Description: Datasheet; ComponentLink1URL: http://ww1.microchip.com/downloads/en/DeviceDoc/30234E.pdf; ComponentLink2Description: Package Specification; ComponentLink2URL: http://www.microchip.com/stellent/groups/techpub_sg/documents/packagingspec/en012702.pdf; ComponentLink3Description: URL Link1; ComponentLink3URL: Product URL:http://www.microchip.com/datasheet/PIC16C63
footprint MCHP-SOIC-SO28_N (SOIC, 28-Leads, Body 17.9x7.5mm, Pitch 1.27mm, IPC Medium Density)
footprint MCHP-SOIC-SO28_L (SOIC, 28-Leads, Body 17.9x7.5mm, Pitch 1.27mm, IPC High Density)
footprint MCHP-SOIC-SO28_M (SOIC, 28-Leads, Body 17.9x7.5mm, Pitch 1.27mm, IPC Low Density)
pins: 1 ~{MCLR}/VPP (in), 2 RA0 (io) "PORTA is a bi-directional I/O port.", 3 RA1 (io) "PORTA is a bi-directional I/O port.", 4 RA2 (io) "PORTA is a bi-directional I/O port.", 5 RA3 (io) "PORTA is a bi-directional I/O port.", 6 RA4/T0CKI (io), 7 RA5/~{SS} (io), 8 VSS (power) "Ground reference for logic and I/O pins.", 9 OSC1/CLKIN (in), 10 OSC2/CLKOUT (out), 11 RC0/T1OSO/T1CKI (io), 12 RC1/T1OSI/CCP2 (io), 13 RC2/CCP1 (io), 14 RC3/SCK/SCL (io), 15 RC4/SDI/SDA (io), 16 RC5/SDO (io), 17 RC6/TX/CK (io), 18 RC7/RX/DT (io), 19 VSS (power) "Ground reference for logic and I/O pins.", 20 VDD (power) "Positive supply for logic and I/O pins.", 21 RB0/INT (io), 22 RB1 (io) "PORTB is a bi-directional I/O port. PORTB can be software programmed for internal weak pull-up on all inputs.", 23 RB2 (io) "PORTB is a bi-directional I/O port. PORTB can be software programmed for internal weak pull-up on all inputs.", 24 RB3 (io) "PORTB is a bi-directional I/O port. PORTB can be software programmed for internal weak pull-up on all inputs.", 25 RB4 (io) "PORTB is a bi-directional I/O port. PORTB can be software programmed for internal weak pull-up on all inputs. Interrupt on change pin.", 26 RB5 (io) "PORTB is a bi-directional I/O port. PORTB can be software programmed for internal weak pull-up on all inputs. Interrupt on change pin.", 27 RB6 (io) "PORTB is a bi-directional I/O port. PORTB can be software programmed for internal weak pull-up on all inputs. Interrupt on change pin. Serial programming clock.", 28 RB7 (io) "PORTB is a bi-directional I/O port. PORTB can be software programmed for internal weak pull-up on all inputs. Interrupt on change pin. Serial programming data."

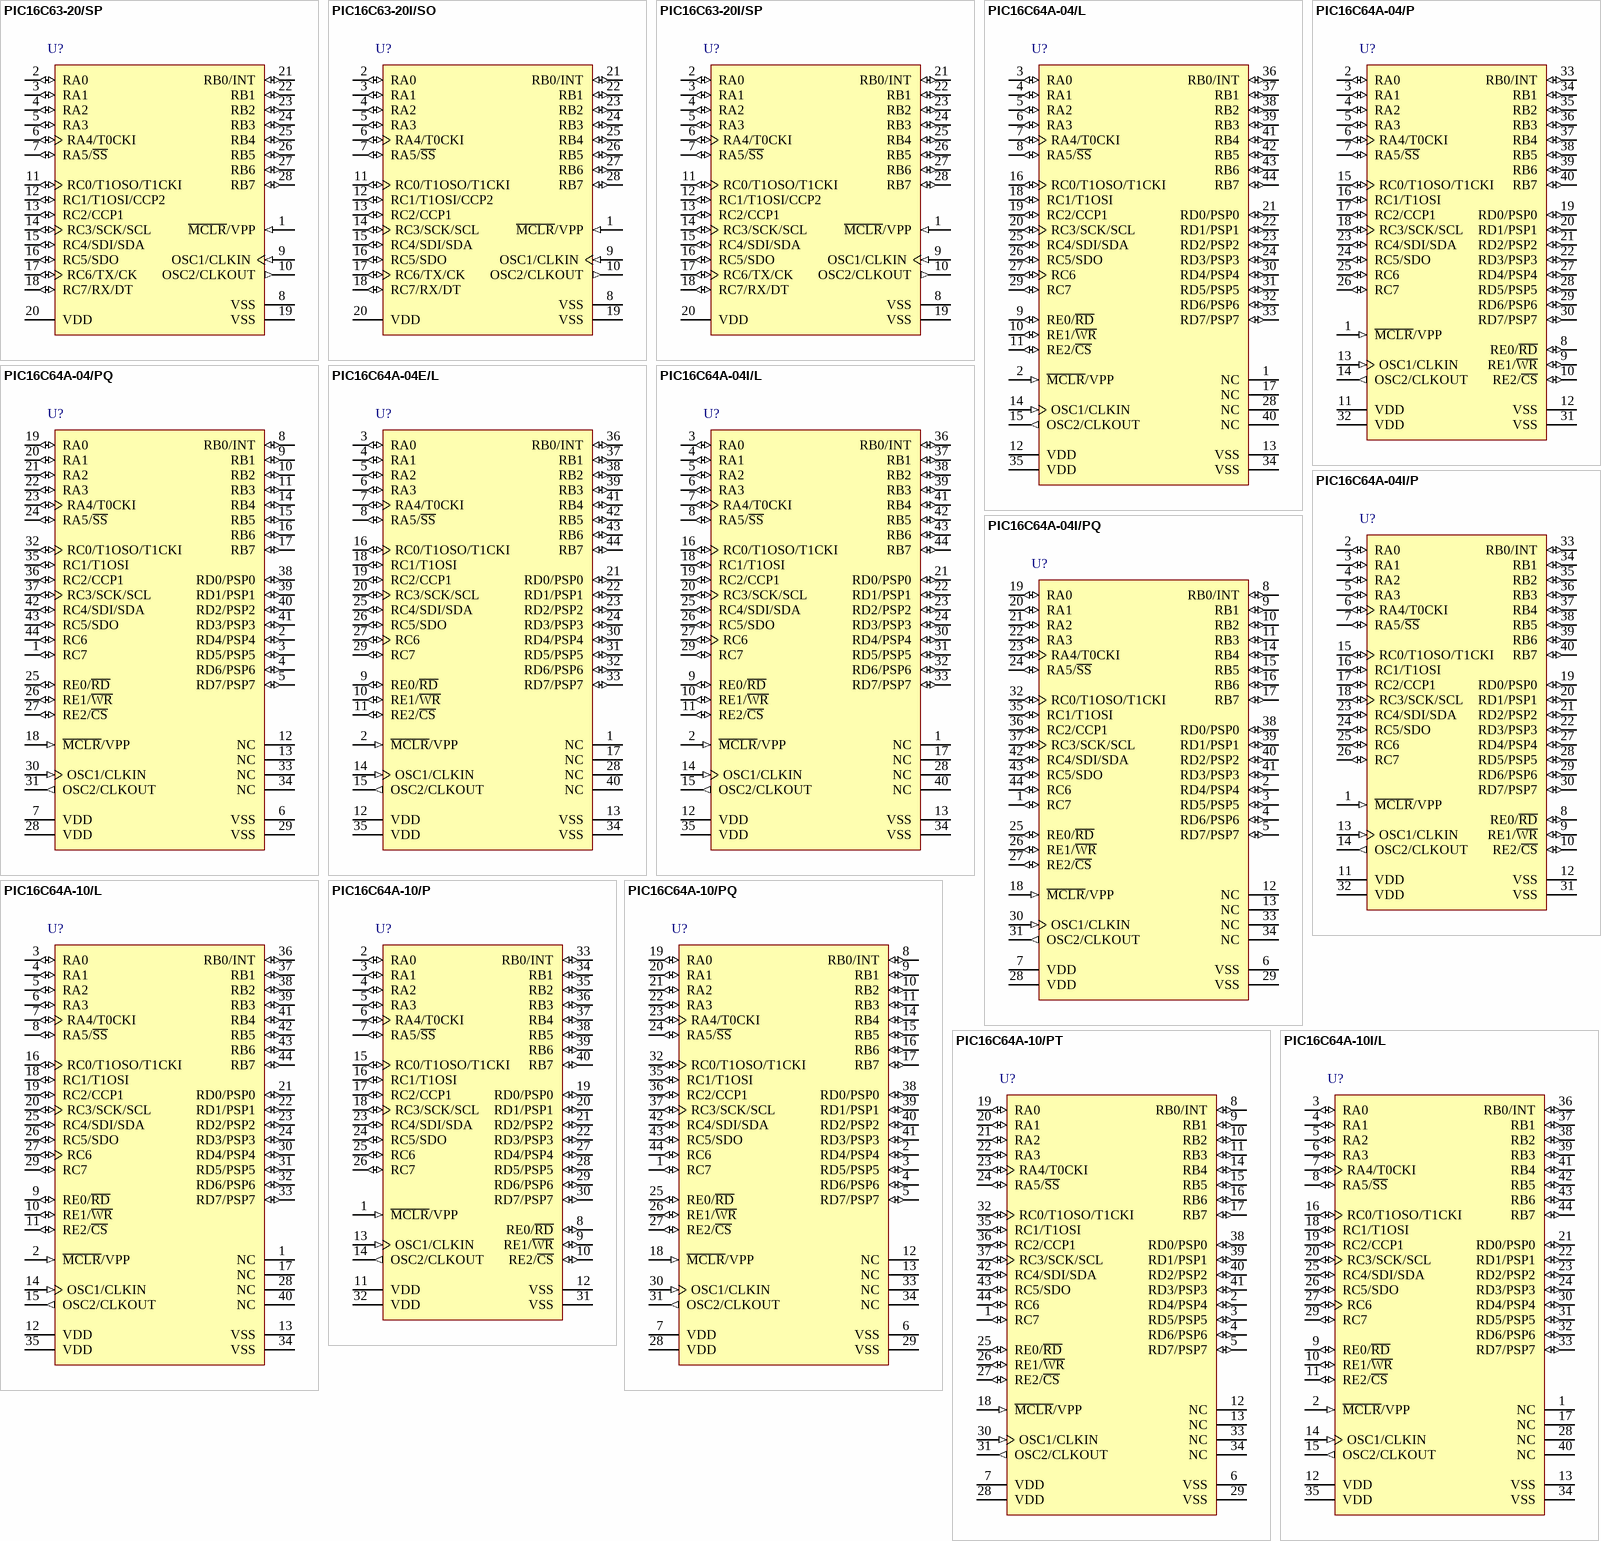
[diagram p8: symbols PIC16C63-20/SP to PIC16C64A-10I/L]

## PIC16C63-20/SP
designator U?
8-Bit CMOS Microcontroller, 20 MHz, 22 I/O, 0 to 70 degC, 28-pin SPDIP (SP28), Tube; Manufacturer: Microchip; PartNumber: PIC16C63-20/SP; # of A/D Channels: 5; Digital Communication: 0 -UART, 1 -A/E/USART, 0 -SPI, 0 -I2C, 0 -MSSP(SPI/I2C), 1 -SSP(SPI/I2C); I/O Pins: 22; Max. CPU Speed MHz: 20; Memory Type: OTP; Operation Voltage Range: 2.5V - 6V; Program Memory KBytes: 7; Program Memory KWords: 4; RAM: 192; Timers: 2 - 8-bit, 1 - 16-bit; DatasheetVersion: Rev. E; PackageVersion: C04-070B, 12/2012; PackageReference: SPDIP-SP28; PackageDescription: 28-Lead Plastic Dual In-Line, 34.86 x 6.79 mm Body, 2.54 mm Pitch; Supplier 1: Digi-Key; Supplier Part Number 1: PIC16C63-20/SP-ND; Supplier 2: Farnell; Supplier Part Number 2: 9759603; Supplier 3: Newark; Supplier Part Number 3: 23C4033; Supplier 4: Mouser; Supplier Part Number 4: 579-PIC16C63-20/SP; Packing: TUBE; RoHS: TRUE; Mounting Technology: Through Hole; ComponentLink1Description: Datasheet; ComponentLink1URL: http://ww1.microchip.com/downloads/en/DeviceDoc/30234E.pdf; ComponentLink2Description: Package Specification; ComponentLink2URL: http://www.microchip.com/stellent/groups/techpub_sg/documents/packagingspec/en012702.pdf; ComponentLink3Description: URL Link1; ComponentLink3URL: Product URL:http://www.microchip.com/datasheet/PIC16C63
footprint MCHP-SPDIP-SP28 (DIP, 28-Leads, Body 34.86x6.79mm, Pitch 2.54mm)
pins: 1 ~{MCLR}/VPP (in), 2 RA0 (io) "PORTA is a bi-directional I/O port.", 3 RA1 (io) "PORTA is a bi-directional I/O port.", 4 RA2 (io) "PORTA is a bi-directional I/O port.", 5 RA3 (io) "PORTA is a bi-directional I/O port.", 6 RA4/T0CKI (io), 7 RA5/~{SS} (io), 8 VSS (power) "Ground reference for logic and I/O pins.", 9 OSC1/CLKIN (in), 10 OSC2/CLKOUT (out), 11 RC0/T1OSO/T1CKI (io), 12 RC1/T1OSI/CCP2 (io), 13 RC2/CCP1 (io), 14 RC3/SCK/SCL (io), 15 RC4/SDI/SDA (io), 16 RC5/SDO (io), 17 RC6/TX/CK (io), 18 RC7/RX/DT (io), 19 VSS (power) "Ground reference for logic and I/O pins.", 20 VDD (power) "Positive supply for logic and I/O pins.", 21 RB0/INT (io), 22 RB1 (io) "PORTB is a bi-directional I/O port. PORTB can be software programmed for internal weak pull-up on all inputs.", 23 RB2 (io) "PORTB is a bi-directional I/O port. PORTB can be software programmed for internal weak pull-up on all inputs.", 24 RB3 (io) "PORTB is a bi-directional I/O port. PORTB can be software programmed for internal weak pull-up on all inputs.", 25 RB4 (io) "PORTB is a bi-directional I/O port. PORTB can be software programmed for internal weak pull-up on all inputs. Interrupt on change pin.", 26 RB5 (io) "PORTB is a bi-directional I/O port. PORTB can be software programmed for internal weak pull-up on all inputs. Interrupt on change pin.", 27 RB6 (io) "PORTB is a bi-directional I/O port. PORTB can be software programmed for internal weak pull-up on all inputs. Interrupt on change pin. Serial programming clock.", 28 RB7 (io) "PORTB is a bi-directional I/O port. PORTB can be software programmed for internal weak pull-up on all inputs. Interrupt on change pin. Serial programming data."

## PIC16C63-20I/SO
designator U?
8-Bit CMOS Microcontroller, 20 MHz, 22 I/O, -40 to 85 degC, 28-pin SOIC (SO28), Tube; Manufacturer: Microchip; PartNumber: PIC16C63-20I/SO; # of A/D Channels: 5; Digital Communication: 0 -UART, 1 -A/E/USART, 0 -SPI, 0 -I2C, 0 -MSSP(SPI/I2C), 1 -SSP(SPI/I2C); I/O Pins: 22; Max. CPU Speed MHz: 20; Memory Type: OTP; Operation Voltage Range: 2.5V - 6V; Program Memory KBytes: 7; Program Memory KWords: 4; RAM: 192; Timers: 2 - 8-bit, 1 - 16-bit; DatasheetVersion: Rev. E; PackageVersion: C04-052C, 12/2012; PackageReference: SOIC-SO28; PackageDescription: 28-Lead Plastic Small Outline, 17.9 x 7.5 mm Body, 1.27 mm Pitch; Supplier 1: Digi-Key; Supplier Part Number 1: PIC16C63-20I/SO-ND; Supplier 2: Newark; Supplier Part Number 2: 23C4036; Supplier 3: Mouser; Supplier Part Number 3: 579-PIC16C63-20I/SO; Packing: TUBE; RoHS: TRUE; Mounting Technology: Surface Mount; ComponentLink1Description: Datasheet; ComponentLink1URL: http://ww1.microchip.com/downloads/en/DeviceDoc/30234E.pdf; ComponentLink2Description: Package Specification; ComponentLink2URL: http://www.microchip.com/stellent/groups/techpub_sg/documents/packagingspec/en012702.pdf; ComponentLink3Description: URL Link1; ComponentLink3URL: Product URL:http://www.microchip.com/datasheet/PIC16C63
footprint MCHP-SOIC-SO28_N (SOIC, 28-Leads, Body 17.9x7.5mm, Pitch 1.27mm, IPC Medium Density)
footprint MCHP-SOIC-SO28_L (SOIC, 28-Leads, Body 17.9x7.5mm, Pitch 1.27mm, IPC High Density)
footprint MCHP-SOIC-SO28_M (SOIC, 28-Leads, Body 17.9x7.5mm, Pitch 1.27mm, IPC Low Density)
pins: 1 ~{MCLR}/VPP (in), 2 RA0 (io) "PORTA is a bi-directional I/O port.", 3 RA1 (io) "PORTA is a bi-directional I/O port.", 4 RA2 (io) "PORTA is a bi-directional I/O port.", 5 RA3 (io) "PORTA is a bi-directional I/O port.", 6 RA4/T0CKI (io), 7 RA5/~{SS} (io), 8 VSS (power) "Ground reference for logic and I/O pins.", 9 OSC1/CLKIN (in), 10 OSC2/CLKOUT (out), 11 RC0/T1OSO/T1CKI (io), 12 RC1/T1OSI/CCP2 (io), 13 RC2/CCP1 (io), 14 RC3/SCK/SCL (io), 15 RC4/SDI/SDA (io), 16 RC5/SDO (io), 17 RC6/TX/CK (io), 18 RC7/RX/DT (io), 19 VSS (power) "Ground reference for logic and I/O pins.", 20 VDD (power) "Positive supply for logic and I/O pins.", 21 RB0/INT (io), 22 RB1 (io) "PORTB is a bi-directional I/O port. PORTB can be software programmed for internal weak pull-up on all inputs.", 23 RB2 (io) "PORTB is a bi-directional I/O port. PORTB can be software programmed for internal weak pull-up on all inputs.", 24 RB3 (io) "PORTB is a bi-directional I/O port. PORTB can be software programmed for internal weak pull-up on all inputs.", 25 RB4 (io) "PORTB is a bi-directional I/O port. PORTB can be software programmed for internal weak pull-up on all inputs. Interrupt on change pin.", 26 RB5 (io) "PORTB is a bi-directional I/O port. PORTB can be software programmed for internal weak pull-up on all inputs. Interrupt on change pin.", 27 RB6 (io) "PORTB is a bi-directional I/O port. PORTB can be software programmed for internal weak pull-up on all inputs. Interrupt on change pin. Serial programming clock.", 28 RB7 (io) "PORTB is a bi-directional I/O port. PORTB can be software programmed for internal weak pull-up on all inputs. Interrupt on change pin. Serial programming data."